# EAGLE library part MUSB (library kblom)
Mini USB, RA, 5 Pin, Type AB, Single, SMT source <http://www.farnell.com/cad/452551.pdf> con
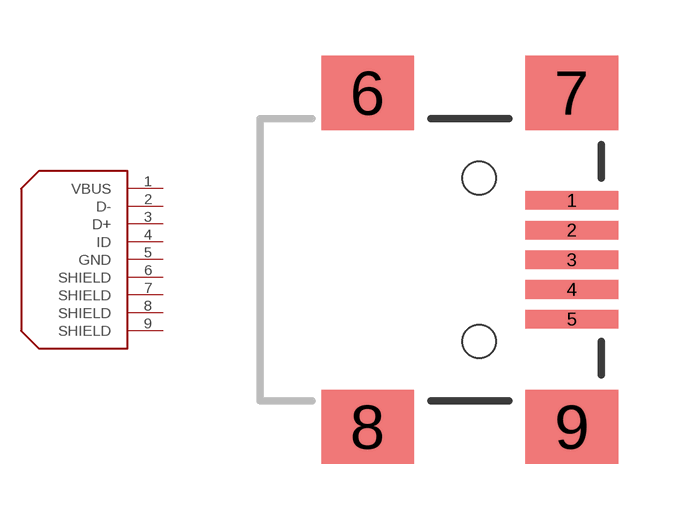
[diagram p8: symbol with the pads of MUSB-05-SMD; footprint MUSB-05-SMD]

Designator prefix X

## MUSB-AB (FARNELL: 1753807)  [MUSB-05-SMD]
1  VBUS  sup
2  D-
3  D+
4  ID
5  GND
6  SHIELD
7  SHIELD
8  SHIELD
9  SHIELD

## Footprint MUSB-05-SMD (pad centres in mm)
USB Series Mini-B Surface Mounted
smd 2.5 x 0.5: 1 2.5,1.6; 2 2.5,0.8; 3 2.5,0; 4 2.5,-0.8; 5 2.5,-1.6
smd 2.5 x 2: 6 -3,4.5; 7 2.5,4.5; 8 -3,-4.5; 9 2.5,-4.5
hole 0.9 at 0,2.2
hole 0.9 at 0,-2.2